# EAGLE library part MC34151 (library di_ic)
ON Semiconductor - High Speed Dual MOSFET Drivers. http://www.onsemi.com/pub_link/Collateral/MC34151-D.PDF
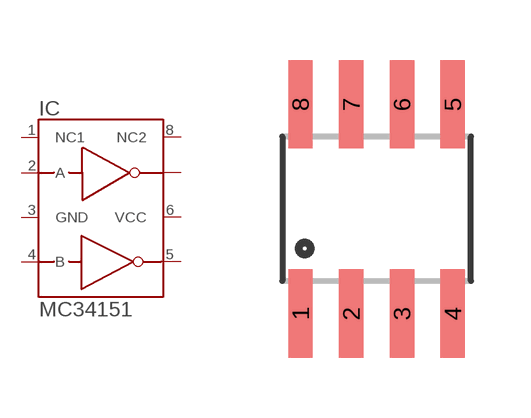
[diagram p31: symbol with the pads of SO08; footprint SO08]

Designator prefix IC

## MC34151  [SO08]
1  NC1
2  A  in
3  GND  pwr
4  B  in
5  B_OUT  out
6  VCC  pwr
7  A_OUT  out
8  NC2

## Footprint SO08 (pad centres in mm)
Small Outline Package Fits JEDEC packages (narrow SOIC-8)
smd 0.61 x 2.21: 1 -1.905,-2.616; 2 -0.635,-2.616; 3 0.635,-2.616; 4 1.905,-2.616; 5 1.905,2.616; 6 0.635,2.616; 7 -0.635,2.616; 8 -1.905,2.616